# Altium footprint library 3.23-LCC封装.PcbLib: 82 footprints (part 1 of 6)
Each footprint in its own frame and in the unit in brackets; x right, y up, seen from the top. Pads: shape width x height; smd on the part's side, far side on the other; paste and mask are expansions set on the pad; w line width, h text height; cw(c..) or ccw(c..) is an arc to the next point about the centre after c.
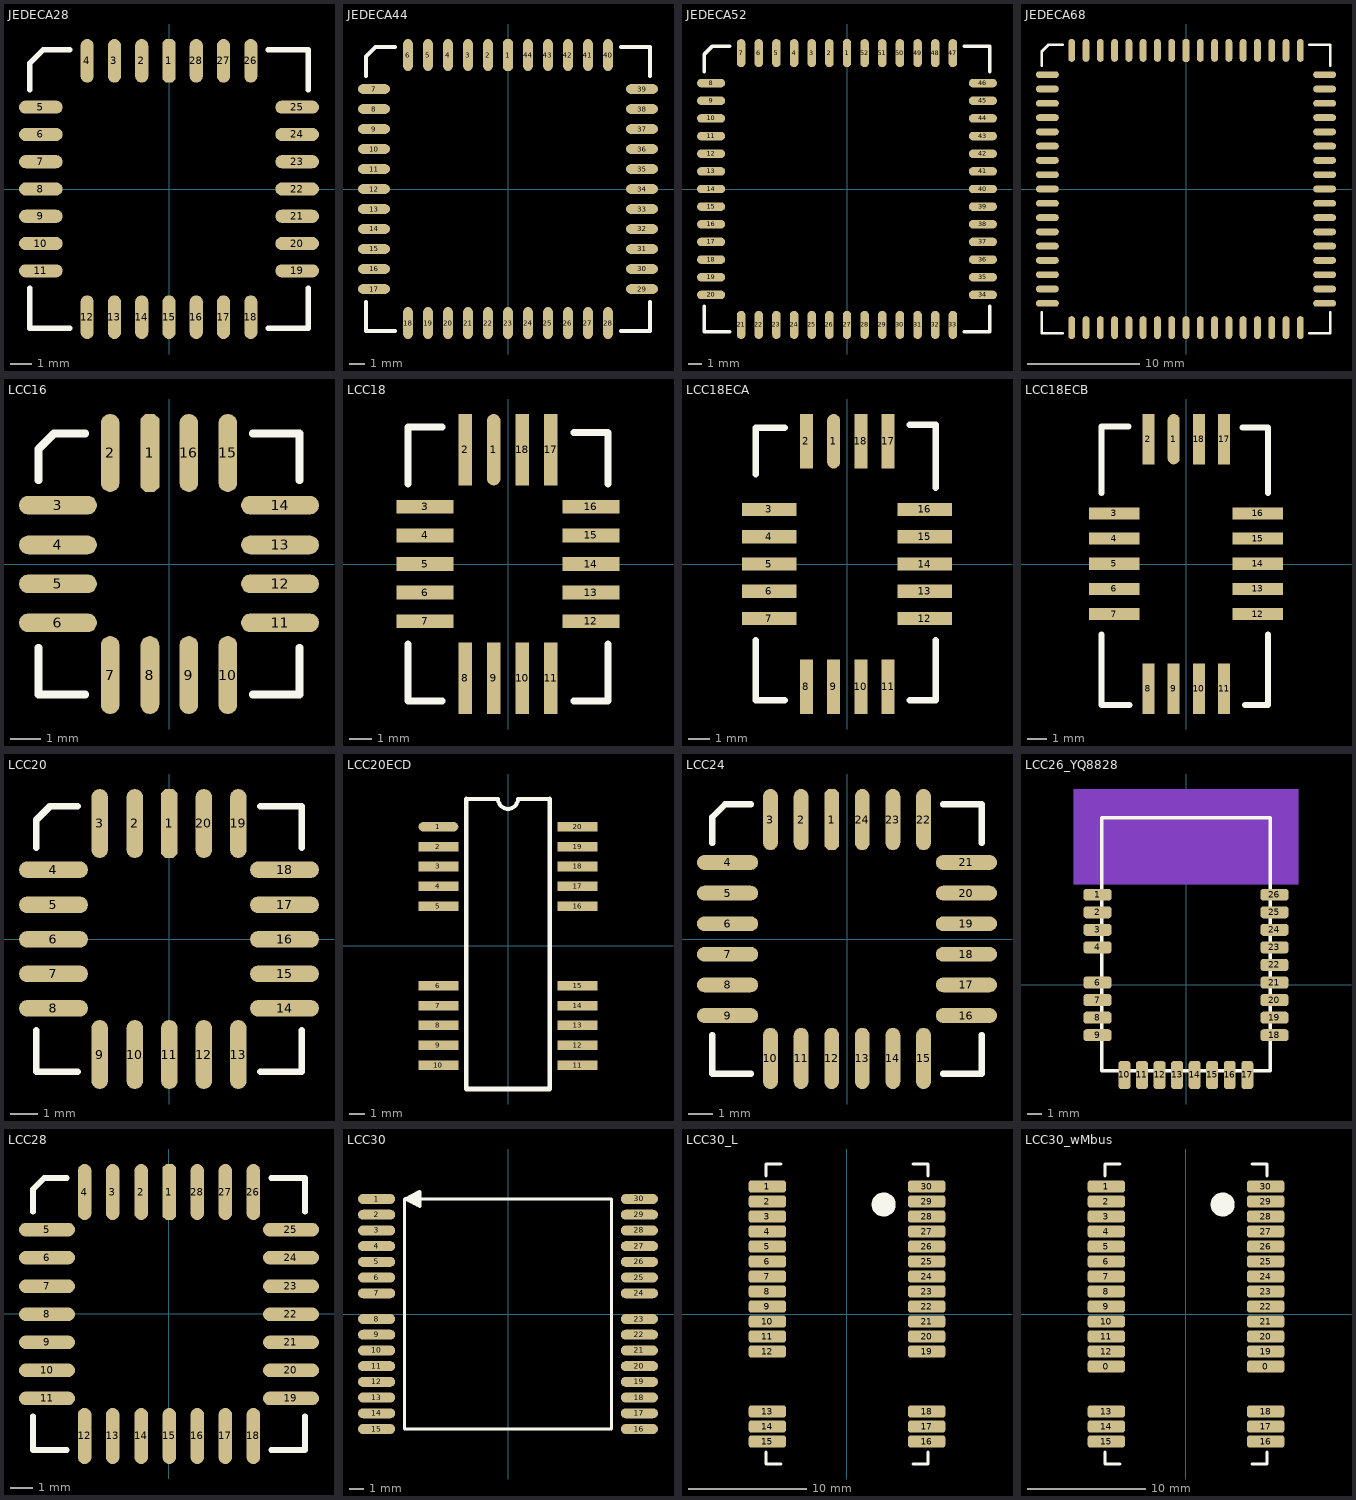
[diagram p0: the footprints below, top view; thin cyan lines are the x and y axes]

## JEDECA28 [mil]
pads (28):
  oct 24x80 smd: 1(0,235)
  oval 24x80 smd: 2(-50,235) 3(-100,235) 4(-150,235) 12(-150,-235) 13(-100,-235) 14(-50,-235) 15(0,-235) 16(50,-235) 17(100,-235) 18(150,-235) 26(150,235) 27(100,235) 28(50,235)
  oval 80x24 smd: 5(-235,150) 6(-235,100) 7(-235,50) 8(-235,0) 9(-235,-50) 10(-235,-100) 11(-235,-150) 19(235,-150) 20(235,-100) 21(235,-50) 22(235,0) 23(235,50) 24(235,100) 25(235,150)
Top Overlay:
  lines w10: -255,-182 -255,-255 -182,-255 ; -255,182 -255,231 -231,255 -182,255 ; 182,-255 255,-255 255,-182 ; 182,255 255,255 255,182

## JEDECA44 [mil]
pads (44):
  oct 24x80 smd: 1(0,335)
  oval 24x80 smd: 2(-50,335) 3(-100,335) 4(-150,335) 5(-200,335) 6(-250,335) 18(-250,-335) 19(-200,-335) 20(-150,-335) 21(-100,-335) 22(-50,-335) 23(0,-335) 24(50,-335) 25(100,-335) 26(150,-335) 27(200,-335) 28(250,-335) 40(250,335) 41(200,335) 42(150,335) 43(100,335) 44(50,335)
  oval 80x24 smd: 7(-335,250) 8(-335,200) 9(-335,150) 10(-335,100) 11(-335,50) 12(-335,0) 13(-335,-50) 14(-335,-100) 15(-335,-150) 16(-335,-200) 17(-335,-250) 29(335,-250) 30(335,-200) 31(335,-150) 32(335,-100) 33(335,-50) 34(335,0) 35(335,50) 36(335,100) 37(335,150) 38(335,200) 39(335,250)
Top Overlay:
  lines w10: -355,-282 -355,-355 -282,-355 ; -355,282 -355,331 -331,355 -282,355 ; 282,-355 355,-355 355,-282 ; 282,355 355,355 355,282

## JEDECA52 [mil]
pads (52):
  oct 24x80 smd: 1(0,385)
  oval 24x80 smd: 2(-50,385) 3(-100,385) 4(-150,385) 5(-200,385) 6(-250,385) 7(-300,385) 21(-300,-385) 22(-250,-385) 23(-200,-385) 24(-150,-385) 25(-100,-385) 26(-50,-385) 27(0,-385) 28(50,-385) 29(100,-385) 30(150,-385) 31(200,-385) 32(250,-385) 33(300,-385) 47(300,385) 48(250,385) 49(200,385) 50(150,385) 51(100,385) 52(50,385)
  oval 80x24 smd: 8(-385,300) 9(-385,250) 10(-385,200) 11(-385,150) 12(-385,100) 13(-385,50) 14(-385,0) 15(-385,-50) 16(-385,-100) 17(-385,-150) 18(-385,-200) 19(-385,-250) 20(-385,-300) 34(385,-300) 35(385,-250) 36(385,-200) 37(385,-150) 38(385,-100) 39(385,-50) 40(385,0) 41(385,50) 42(385,100) 43(385,150) 44(385,200) 45(385,250) 46(385,300)
Top Overlay:
  lines w10: -405,-332 -405,-405 -332,-405 ; -405,332 -405,381 -381,405 -332,405 ; 332,-405 405,-405 405,-332 ; 332,405 405,405 405,332

## JEDECA68 [mil]
pads (68):
  oct 24x80 smd: 1(0,485)
  oval 24x80 smd: 2(-50,485) 3(-100,485) 4(-150,485) 5(-200,485) 6(-250,485) 7(-300,485) 8(-350,485) 9(-400,485) 27(-400,-485) 28(-350,-485) 29(-300,-485) 30(-250,-485) 31(-200,-485) 32(-150,-485) 33(-100,-485) 34(-50,-485) 35(0,-485) 36(50,-485) 37(100,-485) 38(150,-485) 39(200,-485) 40(250,-485) 41(300,-485) 42(350,-485) 43(400,-485) 61(400,485) 62(350,485) 63(300,485) 64(250,485) 65(200,485) 66(150,485) 67(100,485) 68(50,485)
  oval 80x24 smd: 10(-485,400) 11(-485,350) 12(-485,300) 13(-485,250) 14(-485,200) 15(-485,150) 16(-485,100) 17(-485,50) 18(-485,0) 19(-485,-50) 20(-485,-100) 21(-485,-150) 22(-485,-200) 23(-485,-250) 24(-485,-300) 25(-485,-350) 26(-485,-400) 44(485,-400) 45(485,-350) 46(485,-300) 47(485,-250) 48(485,-200) 49(485,-150) 50(485,-100) 51(485,-50) 52(485,0) 53(485,50) 54(485,100) 55(485,150) 56(485,200) 57(485,250) 58(485,300) 59(485,350) 60(485,400)
Top Overlay:
  lines w10: -505,-432 -505,-505 -432,-505 ; -505,432 -505,481 -481,505 -432,505 ; 432,-505 505,-505 505,-432 ; 432,505 505,505 505,432

## LCC16 [mil]
pads (16):
  oct 24x100 smd: 1(-24.5,142.5)
  oval 24x100 smd: 2(-75.5,142.5) 7(-75.5,-142.5) 8(-24.5,-142.5) 9(25.5,-142.5) 10(75.5,-142.5) 15(75.5,142.5) 16(25.5,142.5)
  oval 100x24 smd: 3(-142.5,75.5) 4(-142.5,24.5) 5(-142.5,-25.5) 6(-142.5,-75.5) 11(142.5,-75.5) 12(142.5,-25.5) 13(142.5,24.5) 14(142.5,75.5)
Top Overlay:
  lines w10: -167.5,-107.5 -167.5,-167.5 -107.5,-167.5 ; -167.5,107.5 -167.5,147.5 -147.5,167.5 -107.5,167.5 ; 107.5,-167.5 167.5,-167.5 167.5,-107.5 ; 107.5,167.5 167.5,167.5 167.5,107.5

## LCC18 [mil]
pads (18):
  oval 24x125 smd: 1(-25,200)
  rect 24x125 smd: 2(-75,200) 8(-75,-200) 9(-25,-200) 10(25,-200) 11(75,-200) 17(75,200) 18(25,200)
  rect 100x24 smd: 3(-145,100) 4(-145,50) 5(-145,0) 6(-145,-50) 7(-145,-100) 12(145,-100) 13(145,-50) 14(145,0) 15(145,50) 16(145,100)
Top Overlay:
  lines w12: -175,-140 -175,-240 -115,-240 ; -175,140 -175,240 -115,240 ; 115,-240 175,-240 175,-140 ; 115,230 175,230 175,140

## LCC18ECA [mil]
pads (18):
  oval 24x100 smd: 1(-24.5,225)
  rect 24x100 smd: 2(-74.5,225) 8(-74.5,-225) 9(-24.5,-225) 10(25.5,-225) 11(75.5,-225) 17(75.5,225) 18(25.5,225)
  rect 100x24 smd: 3(-142.5,100) 4(-142.5,50) 5(-142.5,0) 6(-142.5,-50) 7(-142.5,-100) 12(142.5,-100) 13(142.5,-50) 14(142.5,0) 15(142.5,50) 16(142.5,100)
Top Overlay:
  lines w12: -167.5,-140 -167.5,-250 -114.5,-250 ; -167.5,165 -167.5,250 -114.5,250 ; 115.5,-250 162.5,-250 162.5,-140 ; 115.5,255 162.5,255 162.5,140

## LCC18ECB [mil]
pads (18):
  oval 24x100 smd: 1(-24.5,247.5)
  rect 24x100 smd: 2(-74.5,247.5) 8(-74.5,-247.5) 9(-24.5,-247.5) 10(25.5,-247.5) 11(75.5,-247.5) 17(75.5,247.5) 18(25.5,247.5)
  rect 100x24 smd: 3(-142.5,100.5) 4(-142.5,50.5) 5(-142.5,0.5) 6(-142.5,-49.5) 7(-142.5,-99.5) 12(142.5,-99.5) 13(142.5,-49.5) 14(142.5,0.5) 15(142.5,50.5) 16(142.5,100.5)
Top Overlay:
  lines w12: -167.5,-139.5 -167.5,-279.5 -112.5,-279.5 ; -167.5,140.5 -167.5,272.5 -114.5,272.5 ; 112.5,270.5 162.5,270.5 162.5,140.5 ; 117.5,-279.5 162.5,-279.5 162.5,-139.5

## LCC20 [mil]
pads (20):
  oct 24x100 smd: 1(0.5,167.5)
  oval 24x100 smd: 2(-49.5,167.5) 3(-100.5,167.5) 9(-100.5,-167.5) 10(-49.5,-167.5) 11(0.5,-167.5) 12(50.5,-167.5) 13(100.5,-167.5) 19(100.5,167.5) 20(50.5,167.5)
  oval 100x24 smd: 4(-167.5,100.5) 5(-167.5,49.5) 6(-167.5,-0.5) 7(-167.5,-50.5) 8(-167.5,-100.5) 14(167.5,-100.5) 15(167.5,-50.5) 16(167.5,-0.5) 17(167.5,49.5) 18(167.5,100.5)
Top Overlay:
  lines w10: -192.5,-132.5 -192.5,-192.5 -132.5,-192.5 ; -192.5,132.5 -192.5,172.5 -172.5,192.5 -132.5,192.5 ; 132.5,-192.5 192.5,-192.5 192.5,-132.5 ; 132.5,192.5 192.5,192.5 192.5,132.5

## LCC20ECD [mil]
pads (20):
  oval 100x24 smd: 1(-175,300)
  rect 100x24 smd: 2(-175,250) 3(-175,200) 4(-175,150) 5(-175,100) 6(-175,-100) 7(-175,-150) 8(-175,-200) 9(-175,-250) 10(-175,-300) 11(175,-300) 12(175,-250) 13(175,-200) 14(175,-150) 15(175,-100) 16(175,100) 17(175,150) 18(175,200) 19(175,250) 20(175,300)
Top Overlay:
  lines w10: -105,370 -25,370 ccw(c0,370) 25,370 105,370
  lines w12: -105,370 -105,-360 105,-360 105,370

## LCC24 [mil]
pads (24):
  oct 24x100 smd: 1(-25,195)
  oval 24x100 smd: 2(-75,195) 3(-125,195) 10(-125,-195) 11(-75,-195) 12(-25,-195) 13(25,-195) 14(75,-195) 15(125,-195) 22(125,195) 23(75,195) 24(25,195)
  oval 100x24 smd: 4(-195,125) 5(-195,75) 6(-195,25) 7(-195,-25) 8(-195,-75) 9(-195,-125) 16(195,-125) 17(195,-75) 18(195,-25) 19(195,25) 20(195,75) 21(195,125)
Top Overlay:
  lines w10: -220,-157 -220,-220 -157,-220 ; -220,157 -220,199 -199,220 -157,220 ; 157,-220 220,-220 220,-157 ; 157,220 220,220 220,157

## LCC26_YQ8828 [mm] "适用于YQ8828蓝牙模组"
pads (25):
  rrect50% 2x0.85 smd: 1(-6.3,6.415) 2(-6.3,5.165) 3(-6.3,3.915) 4(-6.3,2.665) 6(-6.3,0.165) 7(-6.3,-1.085) 8(-6.3,-2.335) 9(-6.3,-3.585) 18(6.3,-3.585) 19(6.3,-2.335) 20(6.3,-1.085) 21(6.3,0.165) 22(6.3,1.415) 23(6.3,2.665) 24(6.3,3.915) 25(6.3,5.165) 26(6.3,6.415)
  rrect50% 0.85x2 smd: 10(-4.385,-6.415) 11(-3.135,-6.415) 12(-1.885,-6.415) 13(-0.635,-6.415) 14(0.615,-6.415) 15(1.865,-6.415) 16(3.115,-6.415) 17(4.365,-6.415)
Top Layer keep-out:
  region: -8,13.945 8,13.945 8,7.163 -8,7.163
Bottom Layer keep-out:
  region: -8,13.945 8,13.945 8,7.163 -8,7.163
Top Overlay:
  lines w0.254: -6,-6.115 6,-6.115 6,11.885 -6,11.885 -6,-6.115

## LCC28 [mil]
pads (28):
  oct 24x100 smd: 1(0.5,217.5)
  oval 24x100 smd: 2(-49.5,217.5) 3(-100.5,217.5) 4(-150.5,217.5) 12(-150.5,-217.5) 13(-100.5,-217.5) 14(-49.5,-217.5) 15(0.5,-217.5) 16(50.5,-217.5) 17(100.5,-217.5) 18(150.5,-217.5) 26(150.5,217.5) 27(100.5,217.5) 28(50.5,217.5)
  oval 100x24 smd: 5(-217.5,150.5) 6(-217.5,100.5) 7(-217.5,49.5) 8(-217.5,-0.5) 9(-217.5,-50.5) 10(-217.5,-100.5) 11(-217.5,-150.5) 19(217.5,-150.5) 20(217.5,-100.5) 21(217.5,-50.5) 22(217.5,-0.5) 23(217.5,49.5) 24(217.5,100.5) 25(217.5,150.5)
Top Overlay:
  lines w10: -242.5,-182.5 -242.5,-242.5 -182.5,-242.5 ; -242.5,182.5 -242.5,222.5 -222.5,242.5 -182.5,242.5 ; 182.5,-242.5 242.5,-242.5 242.5,-182.5 ; 182.5,242.5 242.5,242.5 242.5,182.5

## LCC30 [mm] "适用于移动NB模组_M5310系列"
height 2.4
pads (30):
  oval 2.6x0.7 smd: 1(-9.2,8.05) 2(-9.2,6.95) 3(-9.2,5.85) 4(-9.2,4.75) 5(-9.2,3.65) 6(-9.2,2.55) 7(-9.2,1.45) 8(-9.2,-0.35) 9(-9.2,-1.45) 10(-9.2,-2.55) 11(-9.2,-3.65) 12(-9.2,-4.75) 13(-9.2,-5.85) 14(-9.2,-6.95) 15(-9.2,-8.05) 16(9.2,-8.05) 17(9.2,-6.95) 18(9.2,-5.85) 19(9.2,-4.75) 20(9.2,-3.65) 21(9.2,-2.55) 22(9.2,-1.45) 23(9.2,-0.35) 24(9.2,1.45) 25(9.2,2.55) 26(9.2,3.65) 27(9.2,4.75) 28(9.2,5.85) 29(9.2,6.95) 30(9.2,8.05)
Top Overlay:
  lines w0.2: -7.239,-8.05 7.239,-8.05 7.239,8.05 -7.239,8.05 -7.239,-8.05
  lines w0.254: -6.59,7.754 -6.59,8.354 ; -6.39,7.654 -6.39,8.354 ; -6.19,8.054 -7.19,8.054 ; -7.19,8.054 -6.19,8.554 -6.19,7.554 -7.19,8.054

## LCC30_L [mil] "适用于Friendcom WMB14-868_433-II 模组"
pads (30):
  rrect50% 126x40 smd: 1(-265.75,425) 2(-265.75,375) 3(-265.75,325) 4(-265.75,275) 5(-265.75,225) 6(-265.75,175) 7(-265.75,125) 8(-265.75,75) 9(-265.75,25) 10(-265.75,-25) 11(-265.75,-75) 12(-265.75,-125) 13(-265.75,-325) 14(-265.75,-375) 15(-265.75,-425) 16(265.75,-425) 17(265.75,-375) 18(265.75,-325) 19(265.75,-125) 20(265.75,-75) 21(265.75,-25) 22(265.75,25) 23(265.75,75) 24(265.75,125) 25(265.75,175) 26(265.75,225) 27(265.75,275) 28(265.75,325) 29(265.75,375) 30(265.75,425)
Top Overlay:
  circle w40: c122,365 r20
  lines w10: -269.68,-460 -269.68,-500 -219.68,-500 ; -269.68,460 -269.68,500 -219.68,500 ; 219.69,-500 269.69,-500 269.69,-460 ; 219.69,500 269.69,500 269.69,460

## LCC30_wMbus [mil] "适用于wMbus模组"
pads (32):
  rrect50% 126x40 smd: 0(-265.75,-175) 0(265.75,-175) 1(-265.75,425) 2(-265.75,375) 3(-265.75,325) 4(-265.75,275) 5(-265.75,225) 6(-265.75,175) 7(-265.75,125) 8(-265.75,75) 9(-265.75,25) 10(-265.75,-25) 11(-265.75,-75) 12(-265.75,-125) 13(-265.75,-325) 14(-265.75,-375) 15(-265.75,-425) 16(265.75,-425) 17(265.75,-375) 18(265.75,-325) 19(265.75,-125) 20(265.75,-75) 21(265.75,-25) 22(265.75,25) 23(265.75,75) 24(265.75,125) 25(265.75,175) 26(265.75,225) 27(265.75,275) 28(265.75,325) 29(265.75,375) 30(265.75,425)
Top Overlay:
  circle w40: c122,365 r20
  lines w10: -269.68,-460 -269.68,-500 -219.68,-500 ; -269.68,460 -269.68,500 -219.68,500 ; 219.69,-500 269.69,-500 269.69,-460 ; 219.69,500 269.69,500 269.69,460